# Altium footprint library Power Supply.PcbLib: 23 footprints (part 1 of 2)
Each footprint in its own frame and in the unit in brackets; x right, y up, seen from the top. Pads: shape width x height; smd on the part's side, far side on the other; paste and mask are expansions set on the pad; w line width, h text height; cw(c..) or ccw(c..) is an arc to the next point about the centre after c.
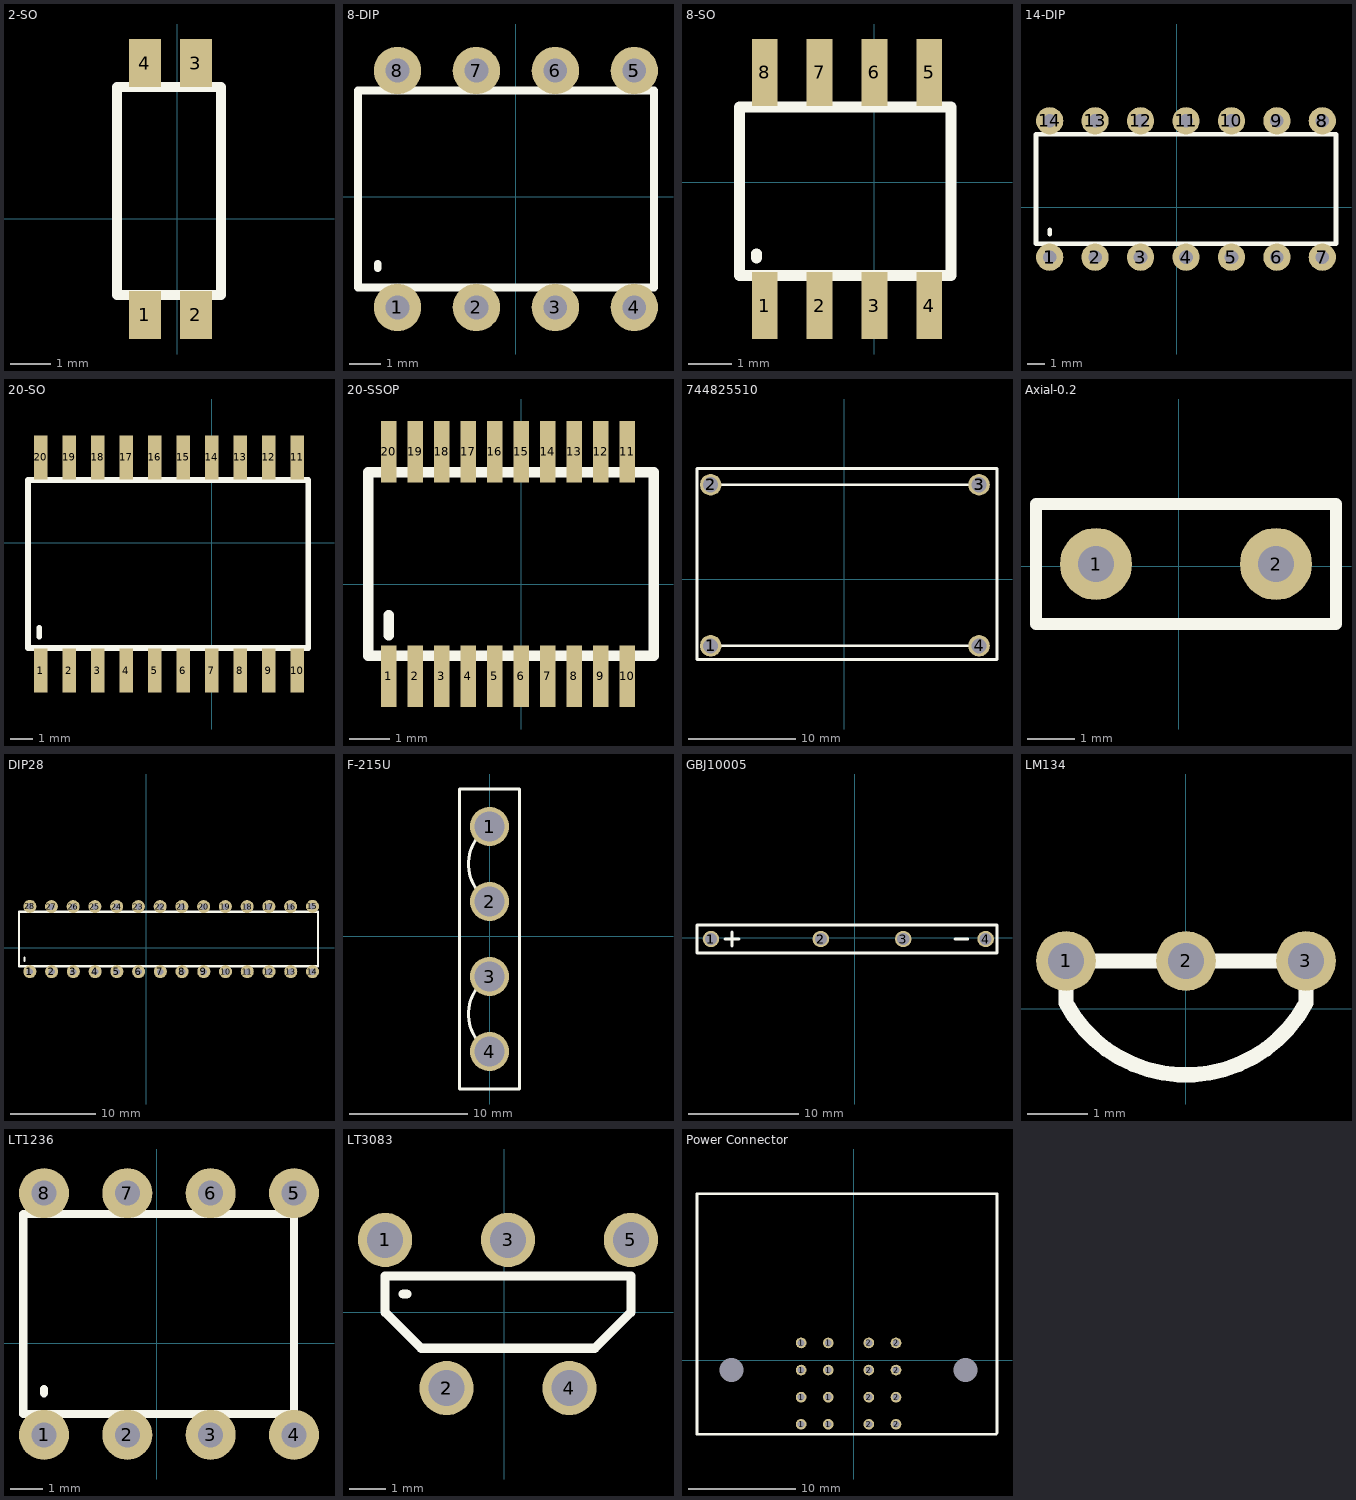
[diagram p0: the footprints below, top view; thin cyan lines are the x and y axes]

## 0.1uF [mm]

## 2-SO [mm]
pads (4):
  rect 0.8x1.2 smd: 1(-0.8,-2.4) 2(0.47,-2.4) 3(0.47,3.9) 4(-0.8,3.9)
Top Overlay:
  lines w0.254: -1.5,-1.9 1.1,-1.9 1.1,3.3 -1.5,3.3 -1.5,-1.9

## 8-DIP [mil]
pads (10):
  round 60 hole 30: 1(-150,-140) 1(-150,-140) 2(-50,-140) 3(50,-140) 4(150,-140) 5(150,160) 5(150,160) 6(50,160) 7(-50,160) 8(-150,160)
Top Overlay:
  lines w10: -175,-90 -175,-85 ; -200,-115 175,-115 175,135 -200,135 -200,-115

## 8-SO [mm]
pads (8):
  rect 0.6x1.55 smd: 1(-2.54,-2.86) 2(-1.27,-2.86) 3(0,-2.86) 4(1.27,-2.86) 5(1.27,2.54) 6(0,2.54) 7(-1.27,2.54) 8(-2.54,2.54)
Top Overlay:
  lines w0.254: -2.73,-1.76 -2.73,-1.66 ; -3.13,-2.16 -3.13,1.74 1.77,1.74 1.77,-2.16 -3.13,-2.16

## 14-DIP [mil] "Op Amps"
pads (16):
  round 60 hole 30: 1(-280,-110) 1(-280,-110) 2(-180,-110) 3(-80,-110) 4(20,-110) 5(120,-110) 6(220,-110) 7(320,-110) 8(320,190) 8(320,190) 9(220,190) 10(120,190) 11(20,190) 12(-80,190) 13(-180,190) 14(-280,190)
Top Overlay:
  lines w10: -280,-60 -280,-50 ; -310,-80 350,-80 350,160 -310,160 -310,-80

## 20-SO [mm]
pads (20):
  rect 0.6x1.95 smd: 1(-7.62,-5.69) 2(-6.35,-5.69) 3(-5.08,-5.69) 4(-3.81,-5.69) 5(-2.54,-5.69) 6(-1.27,-5.69) 7(0,-5.69) 8(1.27,-5.69) 9(2.54,-5.69) 10(3.81,-5.69) 11(3.81,3.81) 12(2.54,3.81) 13(1.27,3.81) 14(0,3.81) 15(-1.27,3.81) 16(-2.54,3.81) 17(-3.81,3.81) 18(-5.08,3.81) 19(-6.35,3.81) 20(-7.62,3.81)
Top Overlay:
  lines w0.254: -7.69,-4.19 -7.69,-3.79 ; -8.19,-4.69 -8.19,2.81 4.31,2.81 4.31,-4.69 -8.19,-4.69

## 20-SSOP [mm]
pads (20):
  rect 0.38x1.5 smd: 1(-3.25,-2.25) 2(-2.6,-2.25) 3(-1.95,-2.25) 4(-1.3,-2.25) 5(-0.65,-2.25) 6(0,-2.25) 7(0.65,-2.25) 8(1.3,-2.25) 9(1.95,-2.25) 10(2.6,-2.25) 11(2.6,3.25) 12(1.95,3.25) 13(1.3,3.25) 14(0.65,3.25) 15(0,3.25) 16(-0.65,3.25) 17(-1.3,3.25) 18(-1.95,3.25) 19(-2.6,3.25) 20(-3.25,3.25)
Top Overlay:
  lines w0.254: -3.25,-1.25 -3.25,-0.75 ; -3.75,-1.75 -3.75,2.75 3.25,2.75 3.25,-1.75 -3.75,-1.75

## 744825510 [mm] "Common Mode Choke"
height 7.62
pads (7):
  round 2 hole 1.4: 1(-12.446,-6.223) 1(-12.446,-6.223) 2(-12.446,8.777) 2(-12.446,8.777) 3(12.554,8.777) 3(12.554,8.777) 4(12.554,-6.223)
Top Overlay:
  lines w0.254: -12.446,8.777 12.554,8.777 ; -12.192,-6.223 12.554,-6.223 ; -13.716,-7.493 14.224,-7.493 14.224,10.287 -13.716,10.287 -13.716,-7.493

## Axial-0.2 [mil]
pads (2):
  round 60 hole 30: 1(-69.09,1.77) 2(80.91,1.77)
Top Overlay:
  lines w10: -119.09,-48.23 130.91,-48.23 130.91,51.77 -119.09,51.77 -119.09,-48.23

## DIP28 [mil]
pads (29):
  round 60 hole 30: 1(-535,-110) 1(-535,-110) 2(-435,-110) 3(-335,-110) 4(-235,-110) 5(-135,-110) 6(-35,-110) 7(65,-110) 8(165,-110) 9(265,-110) 10(365,-110) 11(465,-110) 12(565,-110) 13(665,-110) 14(765,-110) 15(765,190) 16(664.21,189.21) 17(564.21,189.21) 18(464.21,189.21) 19(364.21,189.21) 20(264.21,189.21) 21(164.21,189.21) 22(64.21,189.21) 23(-35.79,189.21) 24(-135.79,189.21) 25(-235.79,189.21) 26(-335.79,189.21) 27(-435.79,189.21) 28(-535,190)
Top Overlay:
  lines w10: -560,-60 -560,-45 ; -585,-85 -585,165 790,165 790,-85 -585,-85

## F-215U [mil] "Tranformer Secondary Windings"
height 100
pads (5):
  round 130 hole 100: 1(0,365) 1(0,365) 2(0,115) 3(0,-135) 4(0,-385)
Top Overlay:
  lines w10: 0,-385 cw(c76.43,-260) 0,-135 ; 0,115 cw(c76.43,240) 0,365 ; -100,-510 -100,490 100,490 100,390 100,-510 -100,-510

## GBJ10005 [mm] "Full Bridge Rectifier"
height 30
pads (6):
  round 1.5 hole 1.1: 1(-13.081,-0.127) 1(-13.081,-0.127) 2(-3.081,-0.127) 2(-3.081,-0.127) 3(4.419,-0.127) 4(11.919,-0.127)
Top Overlay:
  lines w0.254: -11.811,-0.127 -10.541,-0.127 ; -11.176,-0.762 -11.176,0.508 ; 9.144,-0.127 10.287,-0.127 ; -14.351,-1.397 -14.351,1.143 12.954,1.143 12.954,-1.397 -14.351,-1.397

## LM134 [mm] "Constant Current"
pads (4):
  round 1 hole 0.6: 1(-2,0.8) 1(-2,0.8) 2(0,0.8) 3(2,0.8)
Top Overlay:
  lines w0.254: -2,0.1 ccw(c0,1.167) 2,0.1 2,0.8 -2,0.8 -2,0.1

## LT1236 [mil] "Voltage Reference"
pads (10):
  round 60 hole 30: 1(-135,-110) 1(-135,-110) 2(-35,-110) 3(65,-110) 4(165,-110) 5(165,180) 5(165,180) 6(65,180) 7(-35,180) 8(-135,180)
Top Overlay:
  lines w10: -135,-60 -135,-55 ; -160,-85 -160,155 165,155 165,-85 -160,-85

## LT3083 [mm] "Adjustable Voltage Regulator"
pads (7):
  round 1.5 hole 1: 1(-3.3,2) 1(-3.3,2) 2(-1.6,-2.1) 2(-1.6,-2.1) 3(0.1,2) 4(1.8,-2.1) 5(3.5,2)
Top Overlay:
  lines w0.254: -2.8,0.5 -2.7,0.5 ; -3.3,0 -2.3,-1 2.2,-1 2.5,-1 3.5,0 3.5,1 -3.3,1 -3.3,0

## Power Connector [mm]
pads (19):
  round 1 hole 0.641: 1(-4.95,-5.98) 1(-4.95,-3.44) 1(-4.95,-0.9) 1(-4.95,1.64) 1(-2.41,-5.98) 1(-2.41,-3.44) 1(-2.41,-0.9) 1(-2.41,1.64) 2(1.4,-5.98) 2(1.4,-3.44) 2(1.4,-0.9) 2(1.4,1.64) 2(3.94,-5.98) 2(3.94,-3.44) 2(3.94,-0.9) 2(3.94,1.64)
  round 0 hole 2.25: NC(-11.46,-0.9) NC(-11.46,-0.9) NC(10.45,-0.9)
Top Overlay:
  lines w0.254: 13.4,9 13.4,15.6 -14.7,15.6 -14.7,9.6 -14.7,-6.9 -0.6,-6.9 13.3,-6.9 13.4,-6.8 13.4,9.6